# EAGLE library part SGTL5000XNLA3 (library Master)
NXP SGTL5000 Audi CODEC Datasheet: http://www.nxp.com/assets/documents/data/en/data-sheets/SGTL5000.pdf
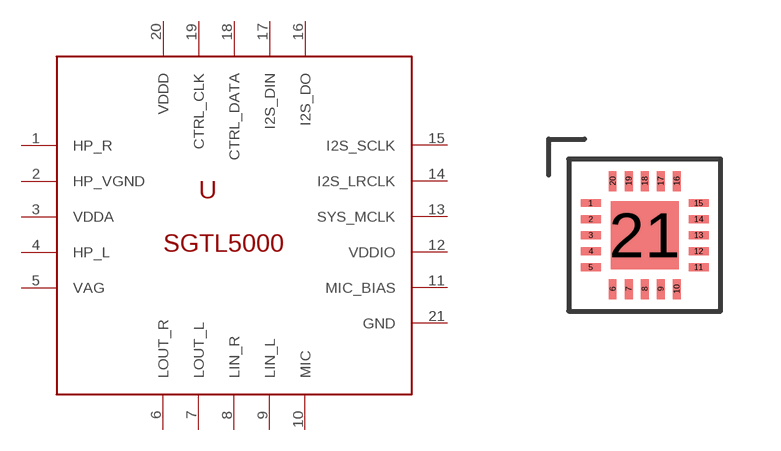
[diagram p7: symbol with the pads of QFN20-NXP-.4; footprint QFN20-NXP-.4]

Designator prefix U

## SGTL5000XNLA3  [QFN20-NXP-.4]
1  HP_R
2  HP_VGND
3  VDDA
4  HP_L
5  VAG
6  LOUT_R
7  LOUT_L
8  LIN_R
9  LIN_L
10  MIC
11  MIC_BIAS
12  VDDIO
13  SYS_MCLK
14  I2S_LRCLK
15  I2S_SCLK
16  I2S_DO
17  I2S_DIN
18  CTRL_DATA
19  CTRL_CLK
20  VDDD
21  GND

## Footprint QFN20-NXP-.4 (pad centres in mm)
20-terminal QFN .4mm pitch
smd 0.5 x 0.2: 1 -1.35,0.8; 2 -1.35,0.4; 3 -1.35,0; 4 -1.35,-0.4; 5 -1.35,-0.8; 11 1.35,-0.8; 12 1.35,-0.4; 13 1.35,0; 14 1.35,0.4; 15 1.35,0.8
smd 0.2 x 0.5: 6 -0.8,-1.35; 7 -0.4,-1.35; 8 0,-1.35; 9 0.4,-1.35; 10 0.8,-1.35; 16 0.8,1.35; 17 0.4,1.35; 18 0,1.35; 19 -0.4,1.35; 20 -0.8,1.35
smd 1.7 x 1.7: 21 0,0